# EAGLE library part XC2S200E-PQ208 (library Xilinx)
Spartan IIE FPGA in PQ208 package. Don't use for new designs.
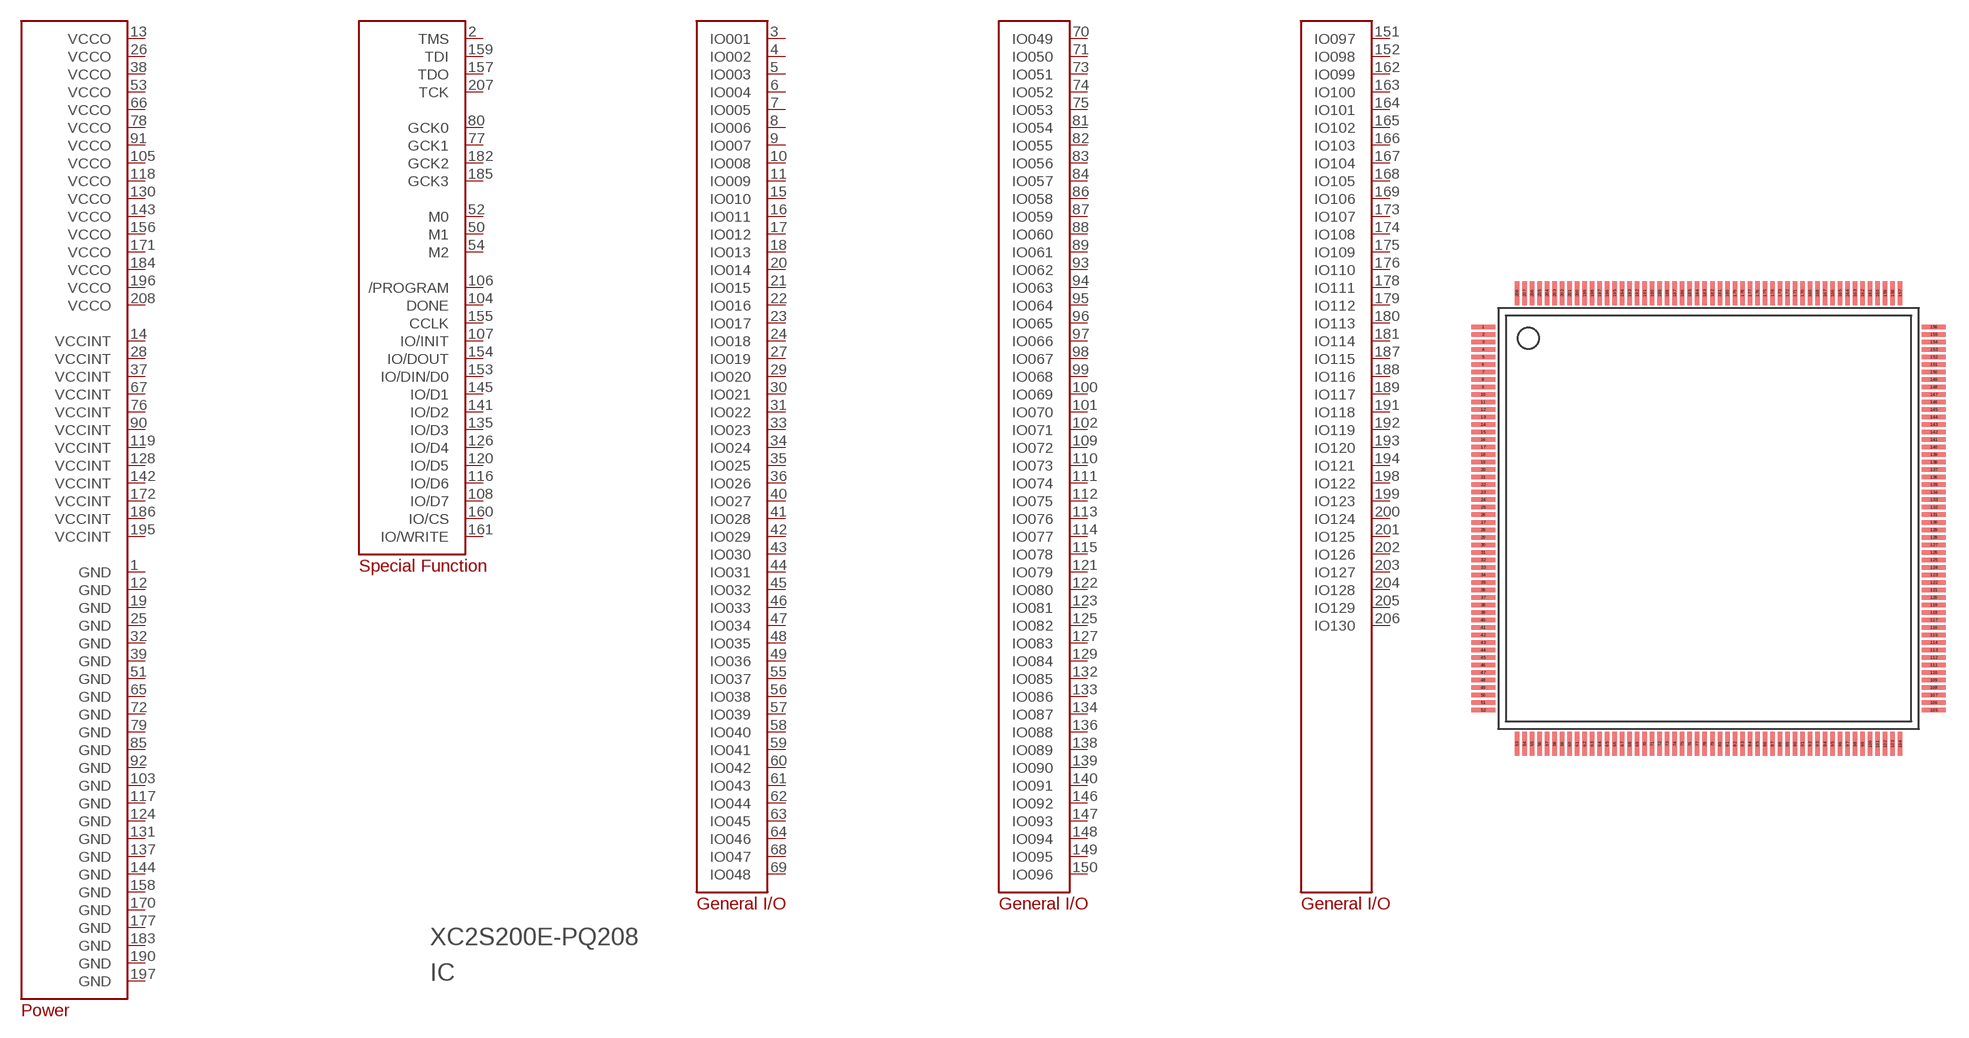
[diagram p7: symbol with the pads of PQ208; footprint PQ208]

Designator prefix IC

## XC2S200E-PQ208  [PQ208]
1  GND  pwr
2  TMS
3  IO001
4  IO002
5  IO003
6  IO004
7  IO005
8  IO006
9  IO007
10  IO008
11  IO009
12  GND  pwr
13  VCCO  pwr
14  VCCINT  pwr
15  IO010
16  IO011
17  IO012
18  IO013
19  GND  pwr
20  IO014
21  IO015
22  IO016
23  IO017
24  IO018
25  GND  pwr
26  VCCO  pwr
27  IO019
28  VCCINT  pwr
29  IO020
30  IO021
31  IO022
32  GND  pwr
33  IO023
34  IO024
35  IO025
36  IO026
37  VCCINT  pwr
38  VCCO  pwr
39  GND  pwr
40  IO027
41  IO028
42  IO029
43  IO030
44  IO031
45  IO032
46  IO033
47  IO034
48  IO035
49  IO036
50  M1
51  GND  pwr
52  M0
53  VCCO  pwr
54  M2
55  IO037
56  IO038
57  IO039
58  IO040
59  IO041
60  IO042
61  IO043
62  IO044
63  IO045
64  IO046
65  GND  pwr
66  VCCO  pwr
67  VCCINT  pwr
68  IO047
69  IO048
70  IO049
71  IO050
72  GND  pwr
73  IO051
74  IO052
75  IO053
76  VCCINT  pwr
77  GCK1
78  VCCO  pwr
79  GND  pwr
80  GCK0
81  IO054
82  IO055
83  IO056
84  IO057
85  GND  pwr
86  IO058
87  IO059
88  IO060
89  IO061
90  VCCINT  pwr
91  VCCO  pwr
92  GND  pwr
93  IO062
94  IO063
95  IO064
96  IO065
97  IO066
98  IO067
99  IO068
100  IO069
101  IO070
102  IO071
103  GND  pwr
104  DONE
105  VCCO  pwr
106  /PROGRAM
107  IO/INIT
108  IO/D7
109  IO072
110  IO073
111  IO074
112  IO075
113  IO076
114  IO077
115  IO078
116  IO/D6
117  GND  pwr
118  VCCO  pwr
119  VCCINT  pwr
120  IO/D5
121  IO079
122  IO080
123  IO081
124  GND  pwr
125  IO082
126  IO/D4
127  IO083
128  VCCINT  pwr
129  IO084
130  VCCO  pwr
131  GND  pwr
132  IO085
133  IO086
134  IO087
135  IO/D3
136  IO088
137  GND  pwr
138  IO089
139  IO090
140  IO091
141  IO/D2
142  VCCINT  pwr
143  VCCO  pwr
144  GND  pwr
145  IO/D1
146  IO092
147  IO093
148  IO094
149  IO095
150  IO096
151  IO097
152  IO098
153  IO/DIN/D0
154  IO/DOUT
155  CCLK
156  VCCO  pwr
157  TDO
158  GND  pwr
159  TDI
160  IO/CS
161  IO/WRITE
162  IO099
163  IO100
164  IO101
165  IO102
166  IO103
167  IO104
168  IO105
169  IO106
170  GND  pwr
171  VCCO  pwr
172  VCCINT  pwr
173  IO107
174  IO108
175  IO109
176  IO110
177  GND  pwr
178  IO111
179  IO112
180  IO113
181  IO114
182  GCK2
183  GND  pwr
184  VCCO  pwr
185  GCK3
186  VCCINT  pwr
187  IO115
188  IO116
189  IO117
190  GND  pwr
191  IO118
192  IO119
193  IO120
194  IO121
195  VCCINT
196  VCCO  pwr
197  GND  pwr
198  IO122
199  IO123
200  IO124
201  IO125
202  IO126
203  IO127
204  IO128
205  IO129
206  IO130
207  TCK
208  VCCO  pwr

## Footprint PQ208 (pad centres in mm)
smd 1.6 x 0.3: 1 -15,12.75; 2 -15,12.25; 3 -15,11.75; 4 -15,11.25; 5 -15,10.75; 6 -15,10.25; 7 -15,9.75; 8 -15,9.25; 9 -15,8.75; 10 -15,8.25; 11 -15,7.75; 12 -15,7.25; 13 -15,6.75; 14 -15,6.25; 15 -15,5.75; 16 -15,5.25; 17 -15,4.75; 18 -15,4.25; 19 -15,3.75; 20 -15,3.25; 21 -15,2.75; 22 -15,2.25; 23 -15,1.75; 24 -15,1.25; 25 -15,0.75; 26 -15,0.25; 27 -15,-0.25; 28 -15,-0.75; 29 -15,-1.25; 30 -15,-1.75; 31 -15,-2.25; 32 -15,-2.75; 33 -15,-3.25; 34 -15,-3.75; 35 -15,-4.25; 36 -15,-4.75; 37 -15,-5.25; 38 -15,-5.75; 39 -15,-6.25; 40 -15,-6.75; 41 -15,-7.25; 42 -15,-7.75; 43 -15,-8.25; 44 -15,-8.75; 45 -15,-9.25; 46 -15,-9.75; 47 -15,-10.25; 48 -15,-10.75; 49 -15,-11.25; 50 -15,-11.75; 51 -15,-12.25; 52 -15,-12.75; 105 15,-12.75; 106 15,-12.25; 107 15,-11.75; 108 15,-11.25; 109 15,-10.75; 110 15,-10.25; 111 15,-9.75; 112 15,-9.25; 113 15,-8.75; 114 15,-8.25; 115 15,-7.75; 116 15,-7.25; 117 15,-6.75; 118 15,-6.25; 119 15,-5.75; 120 15,-5.25; 121 15,-4.75; 122 15,-4.25; 123 15,-3.75; 124 15,-3.25; 125 15,-2.75; 126 15,-2.25; 127 15,-1.75; 128 15,-1.25; 129 15,-0.75; 130 15,-0.25; 131 15,0.25; 132 15,0.75; 133 15,1.25; 134 15,1.75; 135 15,2.25; 136 15,2.75; 137 15,3.25; 138 15,3.75; 139 15,4.25; 140 15,4.75; 141 15,5.25; 142 15,5.75; 143 15,6.25; 144 15,6.75; 145 15,7.25; 146 15,7.75; 147 15,8.25; 148 15,8.75; 149 15,9.25; 150 15,9.75; 151 15,10.25; 152 15,10.75; 153 15,11.25; 154 15,11.75; 155 15,12.25; 156 15,12.75
smd 0.3 x 1.6: 53 -12.75,-15; 54 -12.25,-15; 55 -11.75,-15; 56 -11.25,-15; 57 -10.75,-15; 58 -10.25,-15; 59 -9.75,-15; 60 -9.25,-15; 61 -8.75,-15; 62 -8.25,-15; 63 -7.75,-15; 64 -7.25,-15; 65 -6.75,-15; 66 -6.25,-15; 67 -5.75,-15; 68 -5.25,-15; 69 -4.75,-15; 70 -4.25,-15; 71 -3.75,-15; 72 -3.25,-15; 73 -2.75,-15; 74 -2.25,-15; 75 -1.75,-15; 76 -1.25,-15; 77 -0.75,-15; 78 -0.25,-15; 79 0.25,-15; 80 0.75,-15; 81 1.25,-15; 82 1.75,-15; 83 2.25,-15; 84 2.75,-15; 85 3.25,-15; 86 3.75,-15; 87 4.25,-15; 88 4.75,-15; 89 5.25,-15; 90 5.75,-15; 91 6.25,-15; 92 6.75,-15; 93 7.25,-15; 94 7.75,-15; 95 8.25,-15; 96 8.75,-15; 97 9.25,-15; 98 9.75,-15; 99 10.25,-15; 100 10.75,-15; 101 11.25,-15; 102 11.75,-15; 103 12.25,-15; 104 12.75,-15; 157 12.75,15; 158 12.25,15; 159 11.75,15; 160 11.25,15; 161 10.75,15; 162 10.25,15; 163 9.75,15; 164 9.25,15; 165 8.75,15; 166 8.25,15; 167 7.75,15; 168 7.25,15; 169 6.75,15; 170 6.25,15; 171 5.75,15; 172 5.25,15; 173 4.75,15; 174 4.25,15; 175 3.75,15; 176 3.25,15; 177 2.75,15; 178 2.25,15; 179 1.75,15; 180 1.25,15; 181 0.75,15; 182 0.25,15; 183 -0.25,15; 184 -0.75,15; 185 -1.25,15; 186 -1.75,15; 187 -2.25,15; 188 -2.75,15; 189 -3.25,15; 190 -3.75,15; 191 -4.25,15; 192 -4.75,15; 193 -5.25,15; 194 -5.75,15; 195 -6.25,15; 196 -6.75,15; 197 -7.25,15; 198 -7.75,15; 199 -8.25,15; 200 -8.75,15; 201 -9.25,15; 202 -9.75,15; 203 -10.25,15; 204 -10.75,15; 205 -11.25,15; 206 -11.75,15; 207 -12.25,15; 208 -12.75,15